# Altium footprint library HRM-G-300-467B-1.PcbLib: 1 footprints
Each footprint in its own frame and in the unit in brackets; x right, y up, seen from the top. Pads: shape width x height; smd on the part's side, far side on the other; paste and mask are expansions set on the pad; w line width, h text height; cw(c..) or ccw(c..) is an arc to the next point about the centre after c.
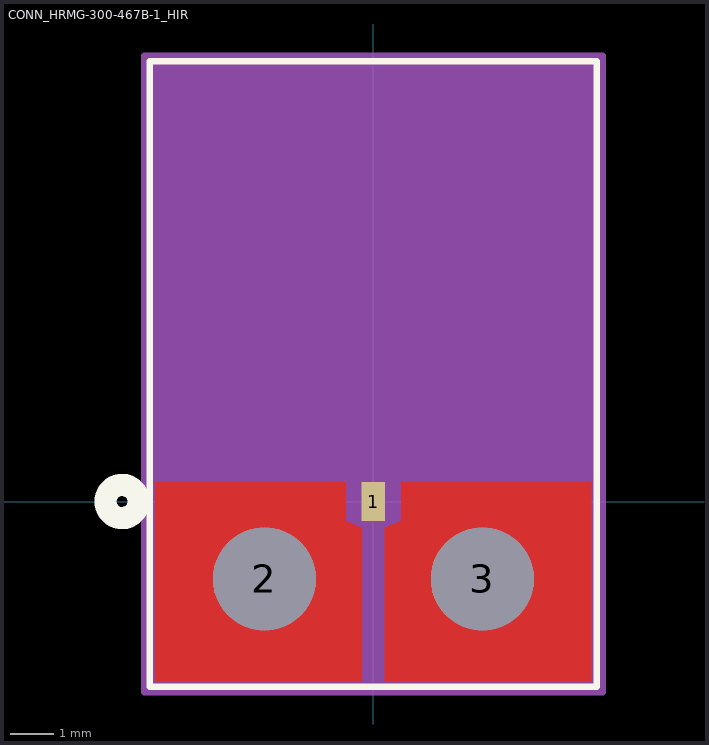
[diagram p0: the footprint, top view; thin cyan lines are the x and y axes]

## CONN_HRMG-300-467B-1_HIR [mil]
pads (3):
  rect 21x35 smd paste+0 mask+0: 1(0,0)
  round 93 hole 93 unplated paste+0 mask+0: 2(-98.43,-69.88) 3(98.43,-69.88)
Top Layer:
  region: 25,-17.5 25,17.5 197,17.5 197,-162.28 10.5,-162.28 10.5,-23.5
  region: -25,-17.5 -25,17.5 -197,17.5 -197,-162.28 -10.5,-162.28 -10.5,-23.5
Top Overlay:
  circle w20: c-227,0 r15
  lines w6: -202,-167.28 202,-167.28 202,397.72 -202,397.72 -202,-167.28
  text ".Designator" at -137.5,-25 h50
Bottom Overlay:
  circle w20: c-227,0 r15
Top Paste:
  region: -25,-17.5 -25,17.5 -197,17.5 -197,-162.28 -10.5,-162.28 -10.5,-23.5
  region: 25,-17.5 25,17.5 197,17.5 197,-162.28 10.5,-162.28 10.5,-23.5
Top Solder:
  region: -25,-17.5 -25,17.5 -197,17.5 -197,-162.28 -10.5,-162.28 -10.5,-23.5
  region: 25,-17.5 25,17.5 197,17.5 197,-162.28 10.5,-162.28 10.5,-23.5
Mechanical 13:
  circle w20: c0,75 r15
  lines w1: -197,-162.28 197,-162.28 197,392.72 -197,392.72 -197,-162.28
  text ".Designator" at -137.5,-25 h50
Mechanical 15:
  region: 207,402.72 -207,402.72 -207,-172.28 207,-172.28
  lines w6: -207,-172.28 -207,402.72 207,402.72 207,-172.28 -207,-172.28